# Altium schematic symbol library User.SchLib: 202 symbols (part 2 of 2)
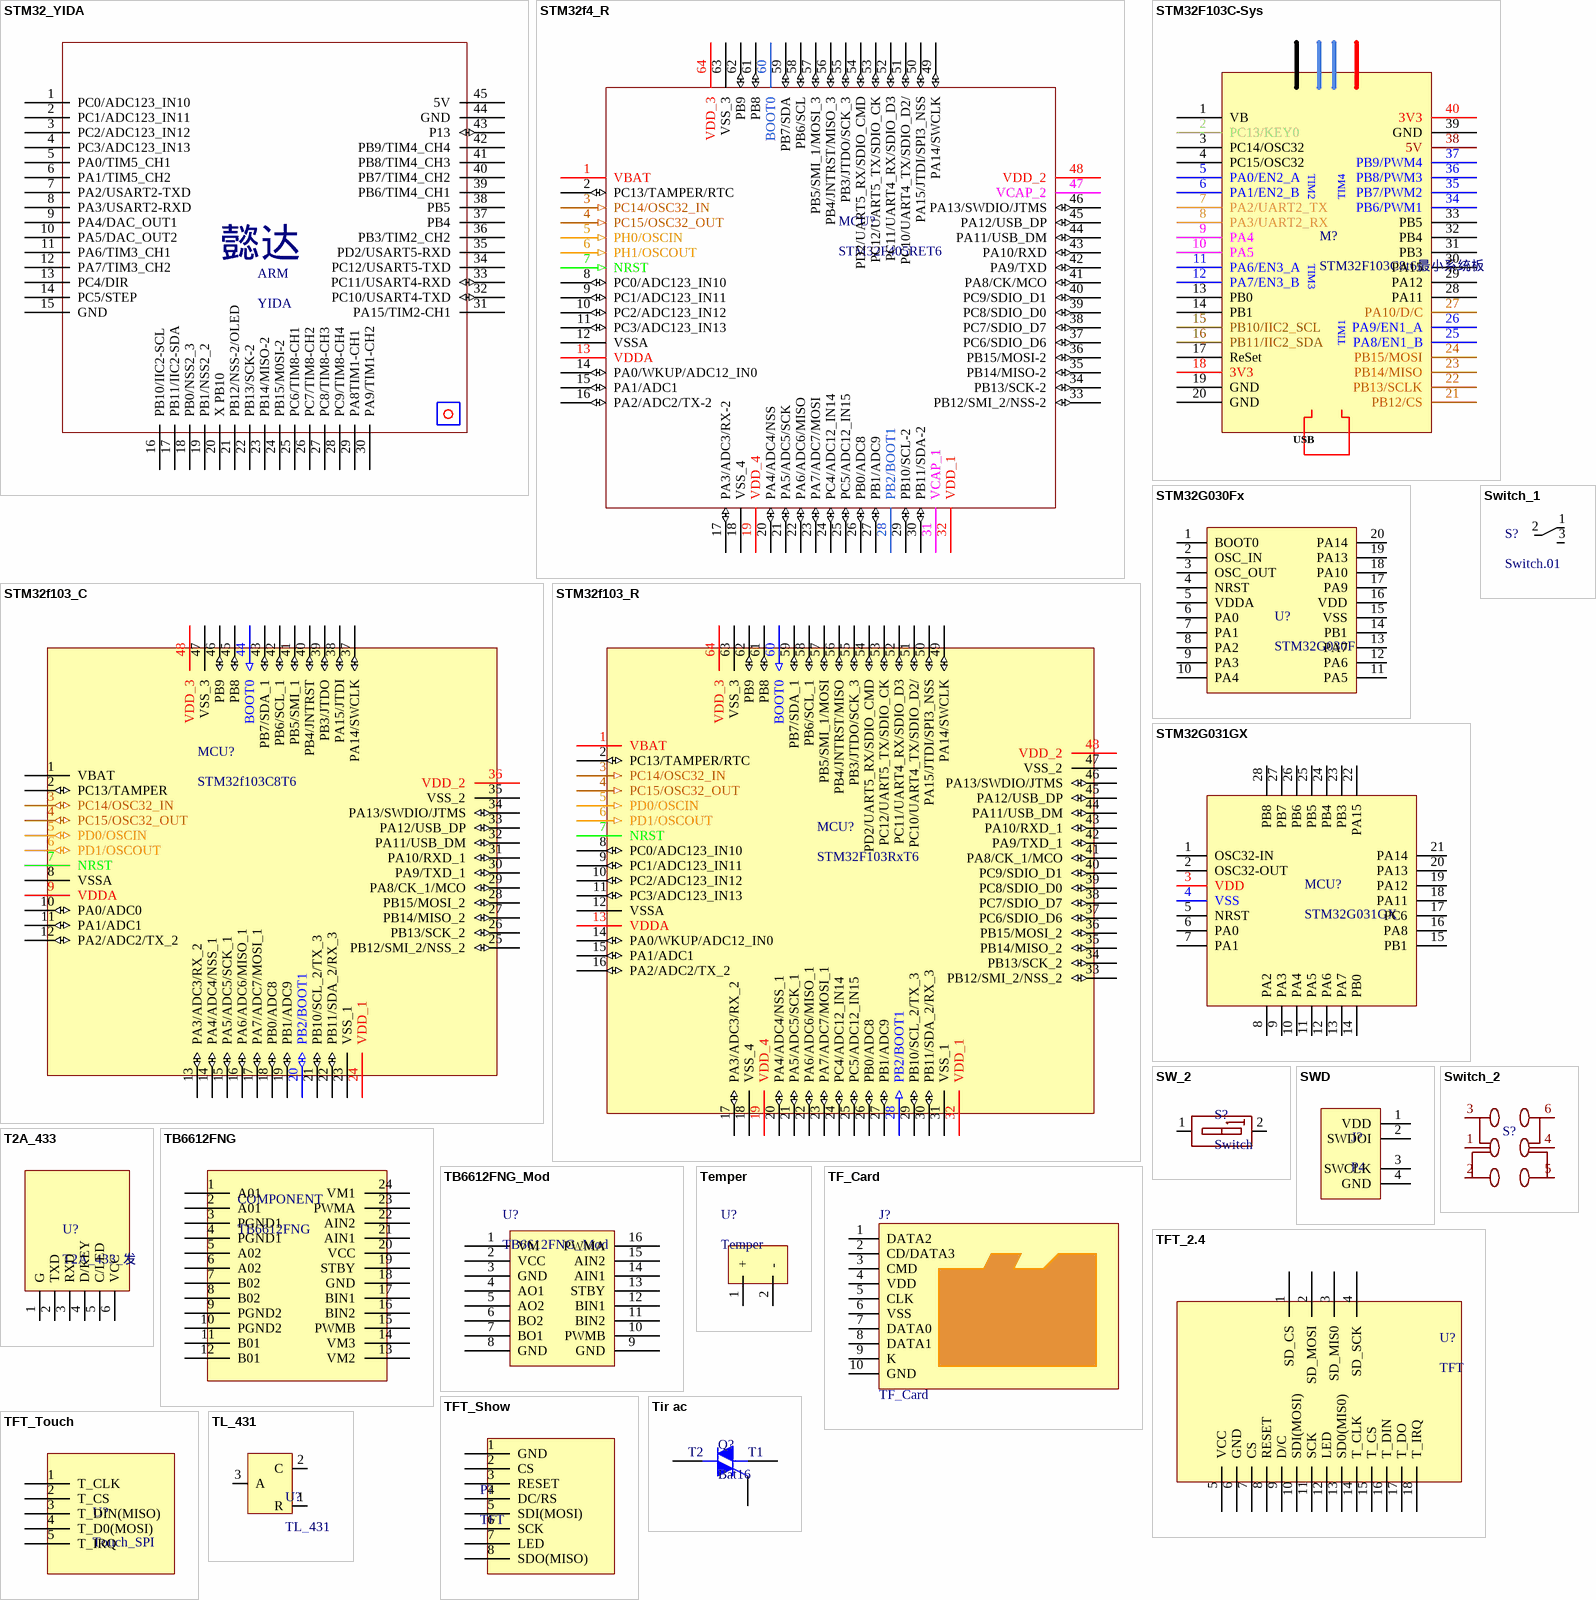
[diagram p8: symbols STM32_YIDA to TL_431]

## STM32f103_R
designator MCU?, comment STM32F103RxT6
MCU
footprint LQFP_64_10X10
pins: 1 VBAT (power), 2 PC13/TAMPER/RTC (io), 3 PC14/OSC32_IN (in), 4 PC15/OSC32_OUT (in), 5 PD0/OSCIN (in), 6 PD1/OSCOUT (in), 7 NRST, 8 PC0/ADC123_IN10 (io), 9 PC1/ADC123_IN11 (io), 10 PC2/ADC123_IN12 (io), 11 PC3/ADC123_IN13 (io), 12 VSSA (power), 13 VDDA (power), 14 PA0/WKUP/ADC12_IN0 (io), 15 PA1/ADC1 (io), 16 PA2/ADC2/TX_2 (io), 17 PA3/ADC3/RX_2 (io), 18 VSS_4 (power), 19 VDD_4 (power), 20 PA4/ADC4/NSS_1 (io), 21 PA5/ADC5/SCK_1 (io), 22 PA6/ADC6/MISO_1 (io), 23 PA7/ADC7/MOSI_1 (io), 24 PC4/ADC12_IN14 (io), 25 PC5/ADC12_IN15 (io), 26 PB0/ADC8 (io), 27 PB1/ADC9 (io), 28 PB2/BOOT1 (in), 29 PB10/SCL_2/TX_3 (io), 30 PB11/SDA_2/RX_3 (io), 31 VSS_1 (power), 32 VDD_1 (power), 33 PB12/SMI_2/NSS_2 (io), 34 PB13/SCK_2 (io), 35 PB14/MISO_2 (io), 36 PB15/MOSI_2 (io), 37 PC6/SDIO_D6 (io), 38 PC7/SDIO_D7 (io), 39 PC8/SDIO_D0 (io), 40 PC9/SDIO_D1 (io), 41 PA8/CK_1/MCO (io), 42 PA9/TXD_1 (io), 43 PA10/RXD_1 (io), 44 PA11/USB_DM (io), 45 PA12/USB_DP (io), 46 PA13/SWDIO/JTMS (io), 47 VSS_2 (power), 48 VDD_2 (power), 49 PA14/SWCLK (io), 50 PA15/JTDI/SPI3_NSS (io), 51 PC10/UART4_TX/SDIO_D2/ (io), 52 PC11/UART4_RX/SDIO_D3 (io), 53 PC12/UART5_TX/SDIO_CK (io), 54 PD2/UART5_RX/SDIO_CMD (io), 55 PB3/JTDO/SCK_3 (io), 56 PB4/JNTRST/MISO (io), 57 PB5/SMI_1/MOSI (io), 58 PB6/SCL_1 (io), 59 PB7/SDA_1 (io), 60 BOOT0 (in), 61 PB8 (io), 62 PB9 (io), 63 VSS_3 (power), 64 VDD_3 (power)

## STM32F103C-Sys
designator M?, comment STM32F103C8t6最小系统板
Mode STM32F103C8t6最小系统板
footprint STM32F103C8_Simple
pins: 1 VB, 2 PC13/KEY0, 3 PC14/OSC32, 4 PC15/OSC32, 5 PA0/EN2_A, 6 PA1/EN2_B, 7 PA2/UART2_TX, 8 PA3/UART2_RX, 9 PA4, 10 PA5, 11 PA6/EN3_A, 12 PA7/EN3_B, 13 PB0, 14 PB1, 15 PB10/IIC2_SCL, 16 PB11/IIC2_SDA, 17 ReSet, 18 3V3, 19 GND, 20 GND, 21 PB12/CS, 22 PB13/SCLK, 23 PB14/MISO, 24 PB15/MOSI, 25 PA8/EN1_B, 26 PA9/EN1_A, 27 PA10/D/C, 28 PA11, 29 PA12, 30 PA15, 31 PB3, 32 PB4, 33 PB5, 34 PB6/PWM1, 35 PB7/PWM2, 36 PB8/PWM3, 37 PB9/PWM4, 38 5V, 39 GND, 40 3V3
text: TIM2; TIM4; TIM3; TIM1; USB

## STM32G030Fx
designator U?, comment STM32G030F
STM32G030F/STM32F030F
footprint SSOP_20_0.635
pins: 1 BOOT0, 2 OSC_IN, 3 OSC_OUT, 4 NRST, 5 VDDA, 6 PA0, 7 PA1, 8 PA2, 9 PA3, 10 PA4, 11 PA5, 12 PA6, 13 PA7, 14 PB1, 15 VSS, 16 VDD, 17 PA9, 18 PA10, 19 PA13, 20 PA14

## STM32G031GX
designator MCU?
MCU
footprint QFN28 5x5_L (28脚，长x宽x高：5x5x0.8mm，脚距：0.5mm)
pins: 1 OSC32-IN, 2 OSC32-OUT, 3 VDD, 4 VSS, 5 NRST, 6 PA0, 7 PA1, 8 PA2, 9 PA3, 10 PA4, 11 PA5, 12 PA6, 13 PA7, 14 PB0, 15 PB1, 16 PA8, 17 PC6, 18 PA11, 19 PA12, 20 PA13, 21 PA14, 22 PA15, 23 PB3, 24 PB4, 25 PB5, 26 PB6, 27 PB7, 28 PB8

## SW_2
designator S?, comment Switch
footprint SW_SMD_2.54*1
pins: 1 A1, 2 A2

## SWD
designator J?, comment P4
Header
footprint XH2.54-WS-4P (长：15mm，宽：8mm，高：6.1mm)
footprint XH2.54-WI-4P (接插件，4P)
pins: 1 VDD, 2 SWDOI, 3 SWCLK, 4 GND

## Switch_1
designator S?, comment Switch.01
Switch
footprint Switch_1
footprint SW-TO3
footprint Switch_1_big
footprint SWITCH_KCD11
footprint SW_SK12D07
pins: 1, 2, 3

## Switch_2
designator S?, comment Switch.02  (value not drawn)
Switch
footprint SWITCH_2_1
footprint SWITCH_2_2
footprint SWITCH_KCD1
footprint SWITCH-KFC-6 (自锁开关，规格：6*6*12.5mm)
footprint SWITCH-KFC-7 (自锁开关，规格：7*7mm)
footprint SWITCH_2_1-Tie
pins: 1, 2, 3, 4, 5, 6

## T2A_433
designator U?, comment T2A_433_发
footprint T2A
pins: 1 G, 2 TXD, 3 RXD, 4 D/KEY, 5 C/LED, 6 VCC

## TB6612FNG
designator COMPONENT
Motor drive
footprint SSOP_24 (0.65)
pins: 1 A01, 2 A01, 3 PGND1, 4 PGND1, 5 A02, 6 A02, 7 B02, 8 B02, 9 PGND2, 10 PGND2, 11 B01, 12 B01, 13 VM2, 14 VM3, 15 PWMB, 16 BIN2, 17 BIN1, 18 GND, 19 STBY, 20 VCC, 21 AIN1, 22 AIN2, 23 PWMA, 24 VM1

## TB6612FNG_Mod
designator U?
MODE
footprint TB6612FNG (MODE)
pins: 1 VM, 2 VCC, 3 GND, 4 AO1, 5 AO2, 6 BO2, 7 BO1, 8 GND, 9 GND, 10 PWMB, 11 BIN2, 12 BIN1, 13 STBY, 14 AIN1, 15 AIN2, 16 PWMA

## Temper
designator U?
Mode
footprint C0804
footprint RESC_0603_1
pins: 1 +, 2 -

## TF_Card
designator J?
TF卡座
footprint SD_MINI
footprint TF_short
pins: 1 DATA2, 2 CD/DATA3, 3 CMD, 4 VDD, 5 CLK, 6 VSS, 7 DATA0, 8 DATA1, 9 K, 10 GND

## TFT_2.4
designator U?, comment TFT
SHOW
footprint TFT (SPI_4+14)
pins: 1 SD_CS, 2 SD_MOSI, 3 SD_MIS0, 4 SD_SCK, 5 VCC, 6 GND, 7 CS, 8 RESET, 9 D/C, 10 SDI(MOSI), 11 SCK, 12 LED, 13 SD0(MIS0), 14 T_CLK, 15 T_CS, 16 T_DIN, 17 T_DO, 18 T_IRQ

## TFT_Show
designator P?, comment TFT
Show
footprint XH_1.25_8P
pins: 1 GND, 2 CS, 3 RESET, 4 DC/RS, 5 SDI(MOSI), 6 SCK, 7 LED, 8 SDO(MISO)

## TFT_Touch
designator U?, comment Touch_SPI
Show
footprint XH_1.25_5P
pins: 1 T_CLK, 2 T_CS, 3 T_DIN(MISO), 4 T_D0(MOSI), 5 T_IRQ

## Tir ac
designator Q?, comment Bat16
SCR
footprint TO220-3-L
pins: 1 M1, 2 M2, 3 G
text: T2; T1

## TL_431
designator U?
DC-DC    基准源
footprint SOT23_3
pins: 1 R, 2 C, 3 A

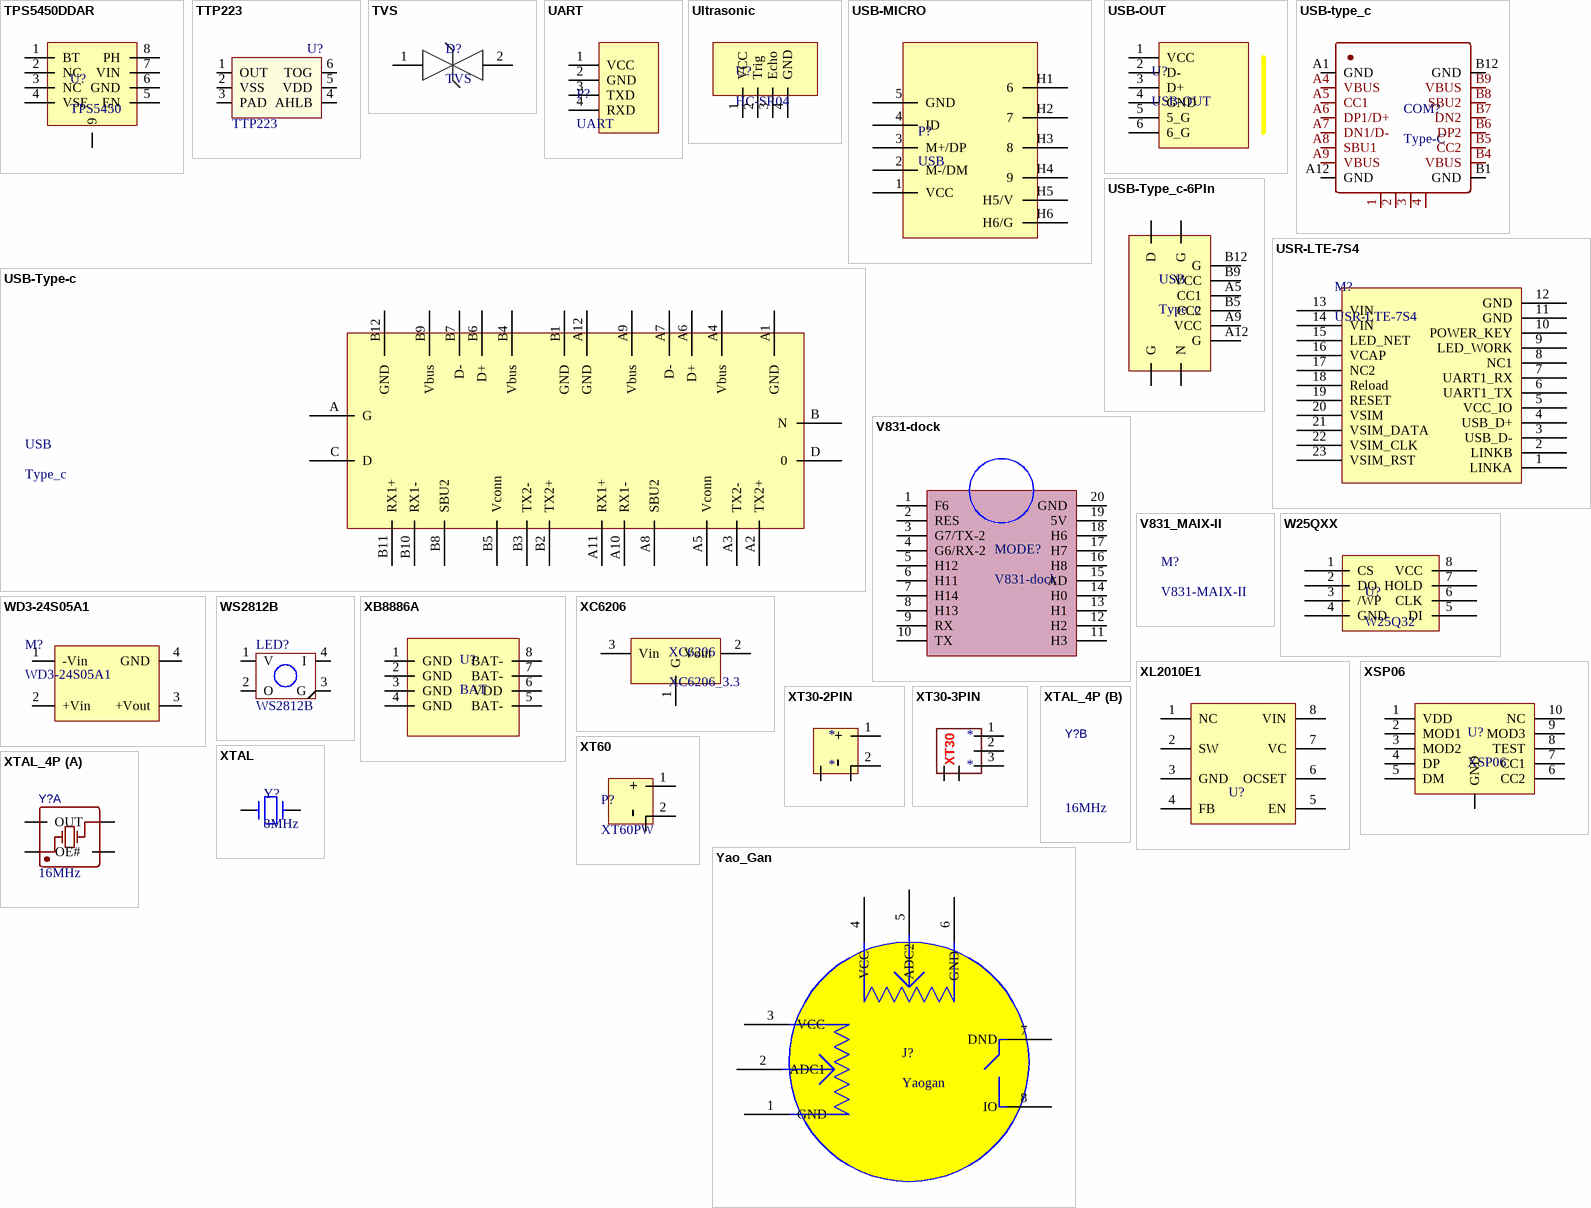
[diagram p7: symbols TPS5450DDAR to Yao_Gan]

## TPS5450DDAR
designator U?, comment TPS5450
DC-DC
footprint SOIC_8E (58mm)
pins: 1 BT, 2 NC, 3 NC, 4 VSE, 5 EN, 6 GND, 7 VIN, 8 PH, 9

## TTP223
designator U?
TOUCH
footprint SOT-23-6
pins: 1 OUT, 2 VSS, 3 PAD, 4 AHLB, 5 VDD, 6 TOG

## TVS
designator D?
diode
footprint SOD-323 (40V-1A)
footprint SMB_TVS
pins: 1, 2

## UART
designator P?
Header
footprint UART
footprint uart-Haerd
footprint UART_PIN
footprint UART-Slave
pins: 1 VCC, 2 GND, 3 TXD, 4 RXD

## Ultrasonic
designator U?, comment HC-SR04
Mode
footprint Ultrasonic
footprint XH2.54-WI-4P (接插件，4P)
pins: 1 VCC, 2 Trig, 3 Echo, 4 GND

## USB-MICRO
designator P?, comment USB
footprint USB_B
footprint USB_Micro (USB)
footprint USB-micro_C (USB)
footprint USB-MICRO-D (USB)
pins: 1 VCC (power), 2 M-/DM, 3 M+/DP, 4 ID, 5 GND (power), H1 6, H2 7, H3 8, H4 9, H5 H5/V (power), H6 H6/G (power)

## USB-OUT
designator U?
USB
footprint USB_BA
footprint USB_Bout
footprint USB_OUT-B
footprint USB_OUT-C
footprint USB_OUT-C*2
footprint USB-A/F-S
footprint USB-A/F-2O
pins: 1 VCC, 2 D-, 3 D+, 4 GND, 5 5_G, 6 6_G

## USB-Type-c
designator USB, comment Type_c
USB
footprint USB-Type-c_6P
footprint USB-Type-C_24P (USB)
footprint USB-TYPE_C_16P (USB)
footprint USB-Type-C_16A
pins: A G, A1 GND, A2 TX2+, A3 TX2-, A4 Vbus, A5 Vconn, A6 D+, A7 D-, A8 SBU2, A9 Vbus, A10 RX1-, A11 RX1+, A12 GND, B N, B1 GND, B2 TX2+, B3 TX2-, B4 Vbus, B5 Vconn, B6 D+, B7 D-, B8 SBU2, B9 Vbus, B10 RX1-, B11 RX1+, B12 GND, C D, D 0

## USB-type_c
designator COM?, comment Type-C
USB
footprint USB-Type-C_16A
footprint USB-TYPE_C_16P (USB)
footprint USB-tYPE_C_C
footprint USB-Type-C_16-S
pins: 1, 2, 3, 4, A1 GND, A4 VBUS, A5 CC1, A6 DP1/D+, A7 DN1/D-, A8 SBU1, A9 VBUS, A12 GND, B1 GND, B4 VBUS, B5 CC2, B6 DP2, B7 DN2, B8 SBU2, B9 VBUS, B12 GND

## USB-Type_c-6PIn
designator USB, comment Type_c
USB
footprint USB-Type-c_6P
pins: A G, A5 CC1, A9 VCC, A12 G, B N, B5 CC2, B9 VCC, B12 G, C D, D G

## USR-LTE-7S4
designator M?
MODE 全网通4G DTU透传模块; 版权归属: 源创客; BOM名称: 全网通4G DTU透传模块; 学习资源: www.ooocke.com
footprint USR-LTE-7S4
pins: 1 LINKA, 2 LINKB, 3 USB_D-, 4 USB_D+, 5 VCC_IO, 6 UART1_TX, 7 UART1_RX, 8 NC1, 9 LED_WORK, 10 POWER_KEY, 11 GND, 12 GND, 13 VIN, 14 VIN, 15 LED_NET, 16 VCAP, 17 NC2, 18 Reload, 19 RESET, 20 VSIM, 21 VSIM_DATA, 22 VSIM_CLK, 23 VSIM_RST

## V831-dock
designator MODE?
MODE
footprint Maix2_Dock
pins: 1 F6, 2 RES, 3 G7/TX-2, 4 G6/RX-2, 5 H12, 6 H11, 7 H14, 8 H13, 9 RX, 10 TX, 11 H3, 12 H2, 13 H1, 14 H0, 15 AD, 16 H8, 17 H7, 18 H6, 19 5V, 20 GND

## V831_MAIX-II
designator M?, comment V831-MAIX-II
Sipeed-v831-M2dock
footprint V831_NAIX-II (核心板)

## W25QXX
designator U?, comment W25Q32
Flash
footprint SOIC_8
pins: 1 CS, 2 DO, 3 /WP, 4 GND, 5 DI, 6 CLK, 7 HOLD, 8 VCC

## WD3-24S05A1
designator M?
DC-DC; BOM名称: 24V转5V模块; 版权归属: 源创客; 学习资源: www.ooocke.com
footprint WD-24S05A1 (3W-24V转5V模块)
pins: 1 -Vin, 2 +Vin, 3 +Vout, 4 GND

## WS2812B
designator LED?
LED
footprint WS2812B (5050)
pins: 1 V, 2 O, 3 G, 4 I

## XB8886A
designator U?, comment BAT
footprint SOP_8
pins: 1 GND, 2 GND, 3 GND, 4 GND, 5 BAT-, 6 VDD, 7 BAT-, 8 BAT-

## XC6206
designator XC6206, comment XC6206_3.3
DC-DC
footprint SOT23_3
pins: 1 G, 2 Vout, 3 Vin

## XL2010E1
designator *, comment U?
pins: 1 NC, 2 SW, 3 GND, 4 FB, 5 EN, 6 OCSET, 7 VC, 8 VIN

## XSP06
designator U?
footprint ESSOP_10
pins: 1 VDD, 2 MOD1, 3 MOD2, 4 DP, 5 DM, 6 CC2, 7 CC1, 8 TEST, 9 MOD3, 10 NC, 11 GND

## XT30-2PIN
designator *
footprint XT30-2Pin
pins: 1 +, 2 -, 3 -, 4 -

## XT30-3PIN
designator *
footprint XT30-3Pin (3.5mm)
pins: 1, 2, 3, 4 -, 5 -
text: XT30

## XT60
designator P?, comment XT60PW
Interface
footprint XT-60
footprint XT60-PW-M20 (长：18.8mm， 宽：16mm，高：8.6mm)
footprint XT-60PW-F20
pins: 0 -, 1 +, 2 -

## XTAL
designator Y?, comment 8MHz
CRYSTAL
footprint XTAL-32
footprint XTAL_SMD_3215
footprint XTAL_3225
footprint XTAL_SMD_49S
footprint XTAL_49S
footprint XTAL-SMD5032-2P
pins: 1, 2

## XTAL_4P
designator Y?, comment 16MHz
Crystal Oscillator; Value: 16MHz
footprint XTAL_SMD_3225
footprint XTAL_SMD_5032
footprint XTAL_SMD_7050
part A pins: 1 OE#, 2 GND, 3 OUT, 4 GND

## Yao_Gan
designator J?, comment Yaogan
Mode
footprint Y.Gan
pins: 1 GND, 2 ADC1, 3 VCC, 4 VCC, 5 ADC2, 6 GND, 7 DND, 8 IO